# Altium schematic symbol library Sensor_Energy.SchLib: 43 symbols
Pins are listed as number, name and electrical type; pins without a type are passive.

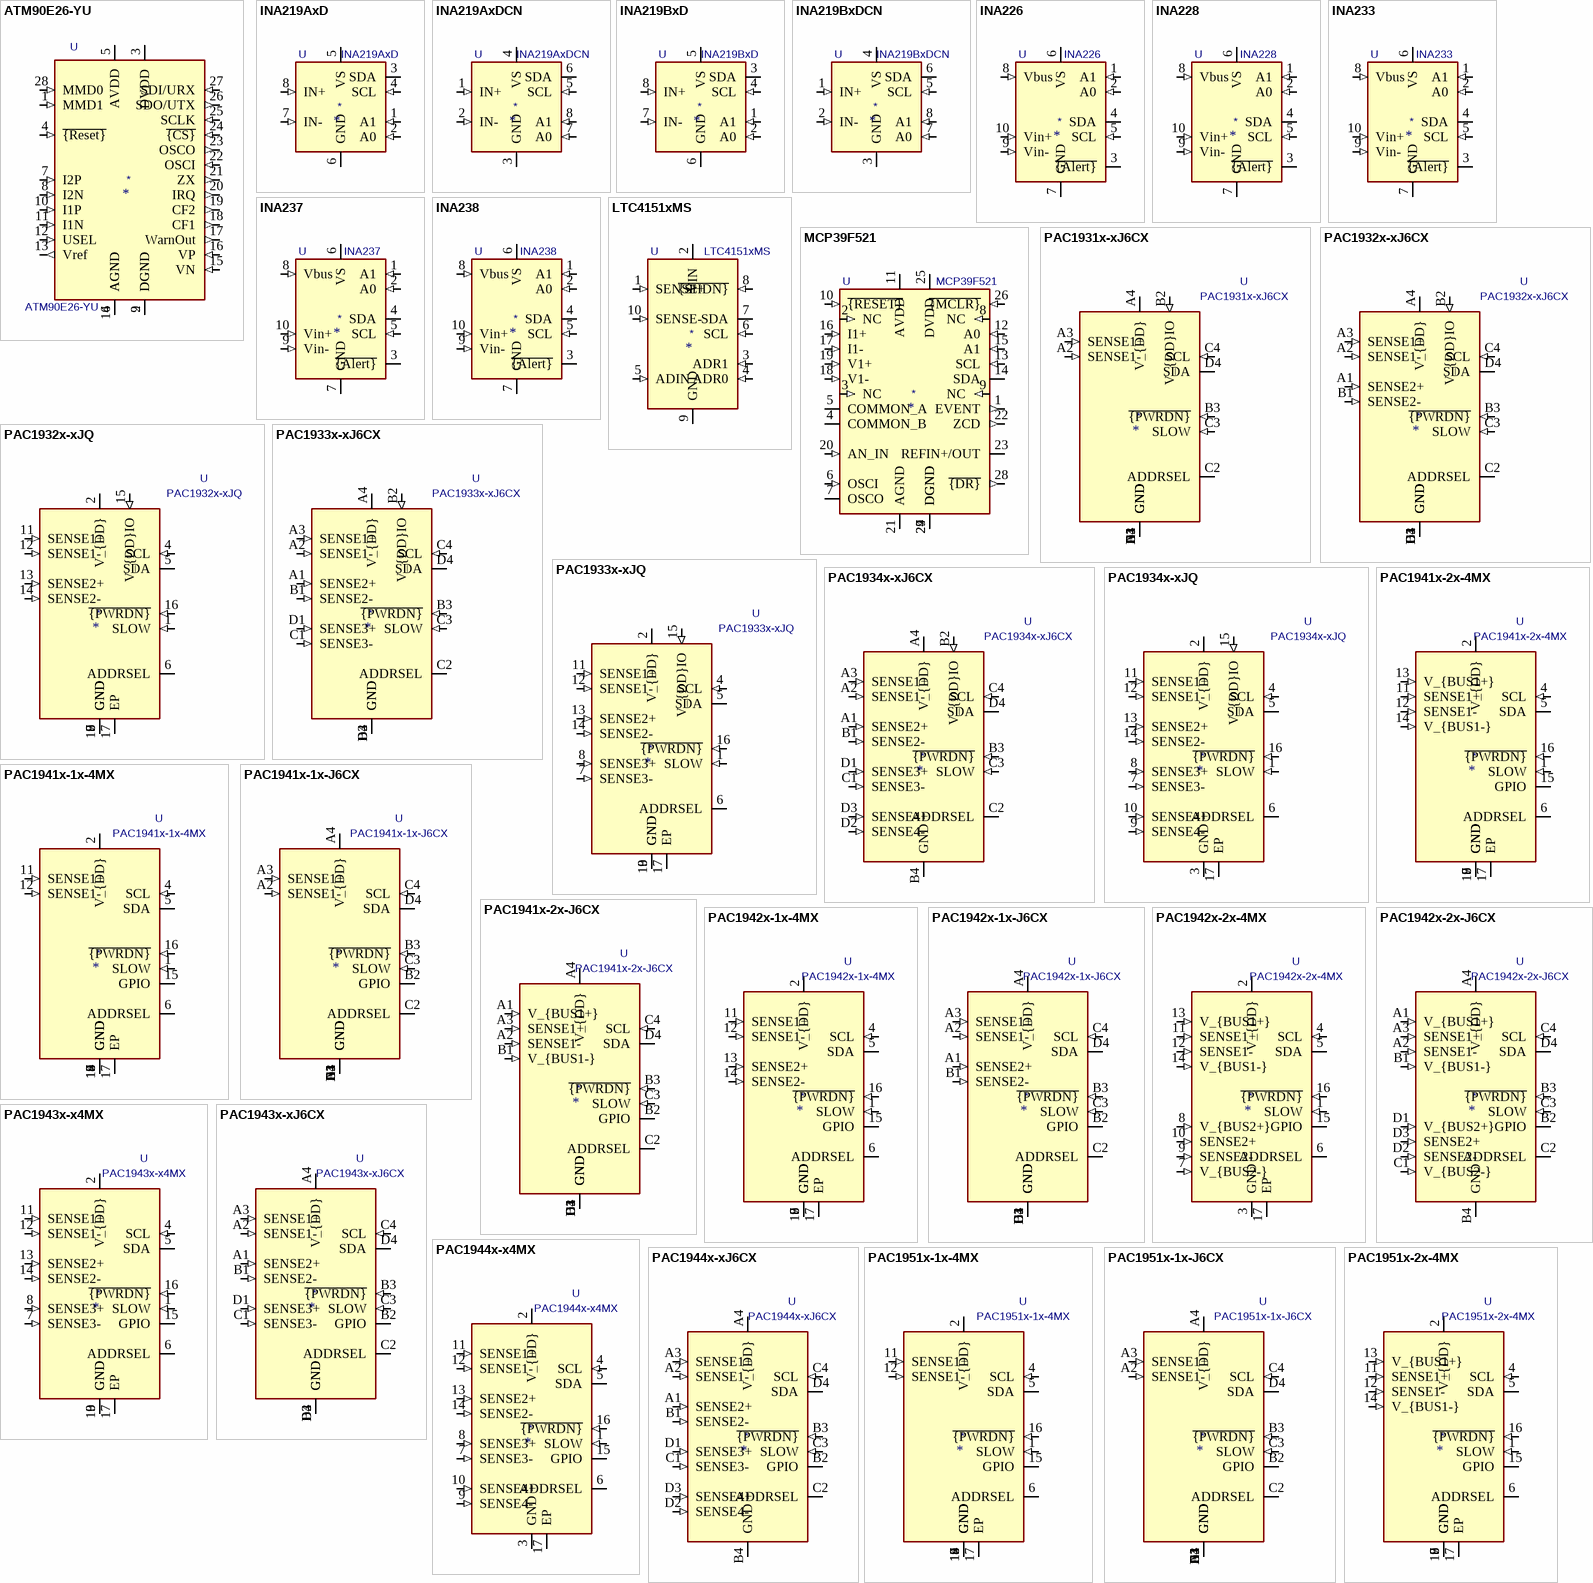
[diagram p0: symbols ATM90E26-YU to PAC1951x-2x-4MX]

## ATM90E26-YU
designator *  value ATM90E26-YU  Reference: U
High precision energy metering device for single-phase two-wire and single-phase three-wire, SSOP-28; ki_keywords: energy metering sensor; ki_fp_filters: SSOP*28*5.3x10.2mm*P0.65mm*; Footprint: Package_SO:SSOP-28_5.3x10.2mm_P0.65mm; Datasheet: https://ww1.microchip.com/downloads/aemDocuments/documents/OTH/ProductDocuments/DataSheets/Atmel-46002-SE-M90E26-Datasheet.pdf; Description_: High precision energy metering device for single-phase two-wire and single-phase three-wire, SSOP-28
pins: 1 MMD1 (in), 2 DGND (power), 3 DVDD (power), 4 ~{{Reset}} (in), 5 AVDD (power), 6 AGND (power), 7 I2P (in), 8 I2N (in), 9 DGND, 10 I1P (in), 11 I1N (in), 12 USEL (in), 13 Vref (out), 14 AGND, 15 VN (in), 16 VP (in), 17 WarnOut (out), 18 CF1 (out), 19 CF2 (out), 20 IRQ (out), 21 ZX (out), 22 OSCI (in), 23 OSCO (out), 24 ~{{CS}} (in), 25 SCLK (in), 26 SDO/UTX (out), 27 SDI/URX (in), 28 MMD0 (in)

## INA219AxD
designator *  value INA219AxD  Reference: U
Zero-Drift, Bidirectional Current/Power Monitor (0-26V) With I2C Interface, SOIC-8; ki_keywords: ADC I2C 16-Bit Oversampling Current Shunt; ki_fp_filters: SOIC*3.9x4.9mm*P1.27mm*; Footprint: Package_SO:SOIC-8_3.9x4.9mm_P1.27mm; Datasheet: http://www.ti.com/lit/ds/symlink/ina219.pdf; Description_: Zero-Drift, Bidirectional Current/Power Monitor (0-26V) With I2C Interface, SOIC-8
pins: 1 A1 (in), 2 A0 (in), 3 SDA (io), 4 SCL (in), 5 VS (power), 6 GND (power), 7 IN- (in), 8 IN+ (in)

## INA219AxDCN
designator *  value INA219AxDCN  Reference: U
Zero-Drift, Bidirectional Current/Power Monitor (0-26V) With I2C Interface, SOT-23-8; ki_keywords: ADC I2C 16-Bit Oversampling Current Shunt; ki_fp_filters: SOT?23*; Footprint: Package_TO_SOT_SMD:SOT-23-8; Datasheet: http://www.ti.com/lit/ds/symlink/ina219.pdf; Description_: Zero-Drift, Bidirectional Current/Power Monitor (0-26V) With I2C Interface, SOT-23-8
pins: 1 IN+ (in), 2 IN- (in), 3 GND (power), 4 VS (power), 5 SCL (in), 6 SDA (io), 7 A0 (in), 8 A1 (in)

## INA219BxD
designator *  value INA219BxD  Reference: U
Zero-Drift, HighAccuracy, Bidirectional Current/Power Monitor (0-26V) With I2C Interface, SOIC-8; ki_keywords: ADC I2C 16-Bit Oversampling Current Shunt; ki_fp_filters: SOIC*3.9x4.9mm*P1.27mm*; Footprint: Package_SO:SOIC-8_3.9x4.9mm_P1.27mm; Datasheet: http://www.ti.com/lit/ds/symlink/ina219.pdf; Description_: Zero-Drift, HighAccuracy, Bidirectional Current/Power Monitor (0-26V) With I2C Interface, SOIC-8
pins: 1 A1 (in), 2 A0 (in), 3 SDA (io), 4 SCL (in), 5 VS (power), 6 GND (power), 7 IN- (in), 8 IN+ (in)

## INA219BxDCN
designator *  value INA219BxDCN  Reference: U
Zero-Drift, HighAccuracy, Bidirectional Current/Power Monitor (0-26V) With I2C Interface, SOT-23-8; ki_keywords: ADC I2C 16-Bit Oversampling Current Shunt; ki_fp_filters: SOT?23*; Footprint: Package_TO_SOT_SMD:SOT-23-8; Datasheet: http://www.ti.com/lit/ds/symlink/ina219.pdf; Description_: Zero-Drift, HighAccuracy, Bidirectional Current/Power Monitor (0-26V) With I2C Interface, SOT-23-8
pins: 1 IN+ (in), 2 IN- (in), 3 GND (power), 4 VS (power), 5 SCL (in), 6 SDA (io), 7 A0 (in), 8 A1 (in)

## INA226
designator *  value INA226  Reference: U
High-Side or Low-Side Measurement, Bi-Directional Current and Power Monitor (0-36V) with I2C Compatible Interface, VSSOP-10; ki_keywords: ADC I2C 16-Bit Oversampling Current Shunt; ki_fp_filters: VSSOP*3x3mm*P0.5mm*; Footprint: Package_SO:VSSOP-10_3x3mm_P0.5mm; Datasheet: http://www.ti.com/lit/ds/symlink/ina226.pdf; Description_: High-Side or Low-Side Measurement, Bi-Directional Current and Power Monitor (0-36V) with I2C Compatible Interface, VSSOP-10
pins: 1 A1 (in), 2 A0 (in), 3 ~{{Alert}} (oc), 4 SDA (io), 5 SCL (in), 6 VS (power), 7 GND (power), 8 Vbus (in), 9 Vin- (in), 10 Vin+ (in)

## INA228
designator *  value INA228  Reference: U
High-Side or Low-Side Measurement, Bi-Directional Current and Power Monitor (0-85V) with I2C, SMBus-, and PMBus-Compatible Interface, VSSOP-10; ki_keywords: ADC I2C 20-Bit Oversampling Current Shunt; ki_fp_filters: VSSOP*3x3mm*P0.5mm*; Footprint: Package_SO:VSSOP-10_3x3mm_P0.5mm; Datasheet: https://www.ti.com/lit/ds/symlink/ina228.pdf; Description_: High-Side or Low-Side Measurement, Bi-Directional Current and Power Monitor (0-85V) with I2C, SMBus-, and PMBus-Compatible Interface, VSSOP-10
pins: 1 A1 (in), 2 A0 (in), 3 ~{{Alert}} (oc), 4 SDA (io), 5 SCL (in), 6 VS (power), 7 GND (power), 8 Vbus (in), 9 Vin- (in), 10 Vin+ (in)

## INA233
designator *  value INA233  Reference: U
High-Side or Low-Side Measurement, Bi-Directional Current and Power Monitor (0-36V) with I2C, SMBus-, and PMBus-Compatible Interface, VSSOP-10; ki_keywords: ADC I2C 16-Bit Oversampling Current Shunt; ki_fp_filters: VSSOP*3x3mm*P0.5mm*; Footprint: Package_SO:VSSOP-10_3x3mm_P0.5mm; Datasheet: https://www.ti.com/lit/ds/symlink/ina233.pdf; Description_: High-Side or Low-Side Measurement, Bi-Directional Current and Power Monitor (0-36V) with I2C, SMBus-, and PMBus-Compatible Interface, VSSOP-10
pins: 1 A1 (in), 2 A0 (in), 3 ~{{Alert}} (oc), 4 SDA (io), 5 SCL (in), 6 VS (power), 7 GND (power), 8 Vbus (in), 9 Vin- (in), 10 Vin+ (in)

## INA237
designator *  value INA237  Reference: U
High-Side or Low-Side Measurement, Bi-Directional Current and Power Monitor (0-85V) with I2C, SMBus-, and PMBus-Compatible Interface, VSSOP-10; ki_keywords: ADC I2C 16-Bit Oversampling Current Shunt; ki_fp_filters: VSSOP*3x3mm*P0.5mm*; Footprint: Package_SO:VSSOP-10_3x3mm_P0.5mm; Datasheet: https://www.ti.com/lit/ds/symlink/ina237.pdf; Description_: High-Side or Low-Side Measurement, Bi-Directional Current and Power Monitor (0-85V) with I2C, SMBus-, and PMBus-Compatible Interface, VSSOP-10
pins: 1 A1 (in), 2 A0 (in), 3 ~{{Alert}} (oc), 4 SDA (io), 5 SCL (in), 6 VS (power), 7 GND (power), 8 Vbus (in), 9 Vin- (in), 10 Vin+ (in)

## INA238
designator *  value INA238  Reference: U
High-Side or Low-Side Measurement, Bi-Directional Current and Power Monitor (0-85V) with I2C, SMBus-, and PMBus-Compatible Interface, VSSOP-10; ki_keywords: ADC I2C 16-Bit Oversampling Current Shunt; ki_fp_filters: VSSOP*3x3mm*P0.5mm*; Footprint: Package_SO:VSSOP-10_3x3mm_P0.5mm; Datasheet: https://www.ti.com/lit/ds/symlink/ina238.pdf; Description_: High-Side or Low-Side Measurement, Bi-Directional Current and Power Monitor (0-85V) with I2C, SMBus-, and PMBus-Compatible Interface, VSSOP-10
pins: 1 A1 (in), 2 A0 (in), 3 ~{{Alert}} (oc), 4 SDA (io), 5 SCL (in), 6 VS (power), 7 GND (power), 8 Vbus (in), 9 Vin- (in), 10 Vin+ (in)

## LTC4151xMS
designator *  value LTC4151xMS  Reference: U
High Voltage I2C Current and Voltage Monitor, MSOP-10; ki_keywords: I2C Current Monitor; ki_fp_filters: MSOP*3x3mm*P0.5mm*; Footprint: Package_SO:MSOP-10_3x3mm_P0.5mm; Datasheet: https://www.analog.com/media/en/technical-documentation/data-sheets/4151ff.pdf; Description_: High Voltage I2C Current and Voltage Monitor, MSOP-10
pins: 1 SENSE+ (in), 2 VIN (power), 3 ADR1 (in), 4 ADR0 (in), 5 ADIN (in), 6 SCL (in), 7 SDA (io), 8 ~{{SHDN}} (in), 9 GND (power), 10 SENSE- (in)

## MCP39F521
designator *  value MCP39F521  Reference: U
Power Monitor, Calculation and Energy Accumulation, I2C, 16-bit, QFN-28; ki_keywords: i2c power monitor; ki_fp_filters: QFN*1EP*5x5mm*P0.5mm*; Footprint: Package_DFN_QFN:QFN-28-1EP_5x5mm_P0.5mm_EP3.35x3.35mm; Datasheet: http://ww1.microchip.com/downloads/en/DeviceDoc/20005442A.pdf; Description_: Power Monitor, Calculation and Energy Accumulation, I2C, 16-bit, QFN-28
pins: 1 EVENT (out), 2 NC (in), 3 NC (in), 4 COMMON_B, 5 COMMON_A, 6 OSCI (in), 7 OSCO, 8 NC (in), 9 NC (in), 10 ~{{RESET}} (in), 11 AVDD (power), 12 A0 (in), 13 SCL (in), 14 SDA (io), 15 A1 (in), 16 I1+ (in), 17 I1- (in), 18 V1- (in), 19 V1+ (in), 20 AN_IN (in), 21 AGND (power), 22 ZCD (out), 23 REFIN+/OUT (io), 24 DGND (power), 25 DVDD (power), 26 ~{{MCLR}} (in), 27 DGND, 28 ~{{DR}} (out), 29 DGND

## PAC1931x-xJ6CX
designator *  value PAC1931x-xJ6CX  Reference: U
One Channel High-side Power Monitor, 32V, I2C, WLCSP-16; ki_keywords: Power Monitor I2C; ki_fp_filters: WLCSP*2.225x2.17mm*Layout4x4*P0.5mm*; Footprint: Package_CSP:WLCSP-16_2.225x2.17mm_Layout4x4_P0.5mm; Datasheet: https://ww1.microchip.com/downloads/en/DeviceDoc/PAC1931-Family-Data-Sheet-DS20005850E.pdf; Description_: One Channel High-side Power Monitor, 32V, I2C, WLCSP-16
pins: A1 GND, A2 SENSE1- (in), A3 SENSE1+ (in), A4 V_{DD} (power), B1 GND, B2 V_{DD}IO (in), B3 ~{{PWRDN}} (in), B4 GND (power), C1 GND, C2 ADDRSEL, C3 SLOW (in), C4 SCL (in), D1 GND, D2 GND, D3 GND, D4 SDA (io)

## PAC1932x-xJ6CX
designator *  value PAC1932x-xJ6CX  Reference: U
Two Channel High-side Power Monitor, 32V, I2C, WLCSP-16; ki_keywords: Power Monitor I2C; ki_fp_filters: WLCSP*2.225x2.17mm*Layout4x4*P0.5mm*; Footprint: Package_CSP:WLCSP-16_2.225x2.17mm_Layout4x4_P0.5mm; Datasheet: https://ww1.microchip.com/downloads/en/DeviceDoc/PAC1931-Family-Data-Sheet-DS20005850E.pdf; Description_: Two Channel High-side Power Monitor, 32V, I2C, WLCSP-16
pins: A1 SENSE2+ (in), A2 SENSE1- (in), A3 SENSE1+ (in), A4 V_{DD} (power), B1 SENSE2- (in), B2 V_{DD}IO (in), B3 ~{{PWRDN}} (in), B4 GND (power), C1 GND, C2 ADDRSEL, C3 SLOW (in), C4 SCL (in), D1 GND, D2 GND, D3 GND, D4 SDA (io)

## PAC1932x-xJQ
designator *  value PAC1932x-xJQ  Reference: U
Two Channel High-side Power Monitor, 32V, I2C, UQFN-16; ki_keywords: Power Monitor I2C; ki_fp_filters: UQFN*1EP*4x4mm*P0.65mm*EP2.6x2.6mm*; Footprint: Package_DFN_QFN:UQFN-16-1EP_4x4mm_P0.65mm_EP2.6x2.6mm; Datasheet: https://ww1.microchip.com/downloads/en/DeviceDoc/PAC1931-Family-Data-Sheet-DS20005850E.pdf; Description_: Two Channel High-side Power Monitor, 32V, I2C, UQFN-16
pins: 1 SLOW (in), 2 V_{DD} (power), 3 GND (power), 4 SCL (in), 5 SDA (io), 6 ADDRSEL, 7 GND, 8 GND, 9 GND, 10 GND, 11 SENSE1+ (in), 12 SENSE1- (in), 13 SENSE2+ (in), 14 SENSE2- (in), 15 V_{DD}IO (in), 16 ~{{PWRDN}} (in), 17 EP

## PAC1933x-xJ6CX
designator *  value PAC1933x-xJ6CX  Reference: U
Three Channel High-side Power Monitor, 32V, I2C, WLCSP-16; ki_keywords: Power Monitor I2C; ki_fp_filters: WLCSP*2.225x2.17mm*Layout4x4*P0.5mm*; Footprint: Package_CSP:WLCSP-16_2.225x2.17mm_Layout4x4_P0.5mm; Datasheet: https://ww1.microchip.com/downloads/en/DeviceDoc/PAC1931-Family-Data-Sheet-DS20005850E.pdf; Description_: Three Channel High-side Power Monitor, 32V, I2C, WLCSP-16
pins: A1 SENSE2+ (in), A2 SENSE1- (in), A3 SENSE1+ (in), A4 V_{DD} (power), B1 SENSE2- (in), B2 V_{DD}IO (in), B3 ~{{PWRDN}} (in), B4 GND (power), C1 SENSE3- (in), C2 ADDRSEL, C3 SLOW (in), C4 SCL (in), D1 SENSE3+ (in), D2 GND, D3 GND, D4 SDA (io)

## PAC1933x-xJQ
designator *  value PAC1933x-xJQ  Reference: U
Three Channel High-side Power Monitor, 32V, I2C, UQFN-16; ki_keywords: Power Monitor I2C; ki_fp_filters: UQFN*1EP*4x4mm*P0.65mm*EP2.6x2.6mm*; Footprint: Package_DFN_QFN:UQFN-16-1EP_4x4mm_P0.65mm_EP2.6x2.6mm; Datasheet: https://ww1.microchip.com/downloads/en/DeviceDoc/PAC1931-Family-Data-Sheet-DS20005850E.pdf; Description_: Three Channel High-side Power Monitor, 32V, I2C, UQFN-16
pins: 1 SLOW (in), 2 V_{DD} (power), 3 GND (power), 4 SCL (in), 5 SDA (io), 6 ADDRSEL, 7 SENSE3- (in), 8 SENSE3+ (in), 9 GND, 10 GND, 11 SENSE1+ (in), 12 SENSE1- (in), 13 SENSE2+ (in), 14 SENSE2- (in), 15 V_{DD}IO (in), 16 ~{{PWRDN}} (in), 17 EP

## PAC1934x-xJ6CX
designator *  value PAC1934x-xJ6CX  Reference: U
Four Channel High-side Power Monitor, 32V, I2C, WLCSP-16; ki_keywords: Power Monitor I2C; ki_fp_filters: WLCSP*2.225x2.17mm*Layout4x4*P0.5mm*; Footprint: Package_CSP:WLCSP-16_2.225x2.17mm_Layout4x4_P0.5mm; Datasheet: https://ww1.microchip.com/downloads/en/DeviceDoc/PAC1931-Family-Data-Sheet-DS20005850E.pdf; Description_: Four Channel High-side Power Monitor, 32V, I2C, WLCSP-16
pins: A1 SENSE2+ (in), A2 SENSE1- (in), A3 SENSE1+ (in), A4 V_{DD} (power), B1 SENSE2- (in), B2 V_{DD}IO (in), B3 ~{{PWRDN}} (in), B4 GND (power), C1 SENSE3- (in), C2 ADDRSEL, C3 SLOW (in), C4 SCL (in), D1 SENSE3+ (in), D2 SENSE4- (in), D3 SENSE4+ (in), D4 SDA (io)

## PAC1934x-xJQ
designator *  value PAC1934x-xJQ  Reference: U
Four Channel High-side Power Monitor, 32V, I2C, UQFN-16; ki_keywords: Power Monitor I2C; ki_fp_filters: UQFN*1EP*4x4mm*P0.65mm*EP2.6x2.6mm*; Footprint: Package_DFN_QFN:UQFN-16-1EP_4x4mm_P0.65mm_EP2.6x2.6mm; Datasheet: https://ww1.microchip.com/downloads/en/DeviceDoc/PAC1931-Family-Data-Sheet-DS20005850E.pdf; Description_: Four Channel High-side Power Monitor, 32V, I2C, UQFN-16
pins: 1 SLOW (in), 2 V_{DD} (power), 3 GND (power), 4 SCL (in), 5 SDA (io), 6 ADDRSEL, 7 SENSE3- (in), 8 SENSE3+ (in), 9 SENSE4- (in), 10 SENSE4+ (in), 11 SENSE1+ (in), 12 SENSE1- (in), 13 SENSE2+ (in), 14 SENSE2- (in), 15 V_{DD}IO (in), 16 ~{{PWRDN}} (in), 17 EP

## PAC1941x-1x-4MX
designator *  value PAC1941x-1x-4MX  Reference: U
One Channel High-side Power Monitor, 9V, I2C, VQFN-16; ki_keywords: Power Monitor I2C; ki_fp_filters: VQFN*1EP*3x3mm*P0.5mm*EP1.1x1.1mm*; Footprint: Package_DFN_QFN:VQFN-16-1EP_3x3mm_P0.5mm_EP1.1x1.1mm; Datasheet: https://ww1.microchip.com/downloads/en/DeviceDoc/PAC194X-Data-Sheet-20006543.pdf; Description_: One Channel High-side Power Monitor, 9V, I2C, VQFN-16
pins: 1 SLOW (in), 2 V_{DD} (power), 3 GND (power), 4 SCL (in), 5 SDA (io), 6 ADDRSEL, 7 GND, 8 GND, 9 GND, 10 GND, 11 SENSE1+ (in), 12 SENSE1- (in), 13 GND, 14 GND, 15 GPIO (io), 16 ~{{PWRDN}} (in), 17 EP

## PAC1941x-1x-J6CX
designator *  value PAC1941x-1x-J6CX  Reference: U
One Channel High-side Power Monitor, 9V, I2C, WLCSP-16; ki_keywords: Power Monitor I2C; ki_fp_filters: WLCSP*2.225x2.17mm*Layout4x4*P0.5mm*; Footprint: Package_CSP:WLCSP-16_2.225x2.17mm_Layout4x4_P0.5mm; Datasheet: https://ww1.microchip.com/downloads/en/DeviceDoc/PAC194X-Data-Sheet-20006543.pdf; Description_: One Channel High-side Power Monitor, 9V, I2C, WLCSP-16
pins: A1 GND, A2 SENSE1- (in), A3 SENSE1+ (in), A4 V_{DD} (power), B1 GND, B2 GPIO (io), B3 ~{{PWRDN}} (in), B4 GND (power), C1 GND, C2 ADDRSEL, C3 SLOW (in), C4 SCL (in), D1 GND, D2 GND, D3 GND, D4 SDA (io)

## PAC1941x-2x-4MX
designator *  value PAC1941x-2x-4MX  Reference: U
One Channel Low-side Power Monitor, 9V, I2C, VQFN-16; ki_keywords: Power Monitor I2C; ki_fp_filters: VQFN*1EP*3x3mm*P0.5mm*EP1.1x1.1mm*; Footprint: Package_DFN_QFN:VQFN-16-1EP_3x3mm_P0.5mm_EP1.1x1.1mm; Datasheet: https://ww1.microchip.com/downloads/en/DeviceDoc/PAC194X-Data-Sheet-20006543.pdf; Description_: One Channel Low-side Power Monitor, 9V, I2C, VQFN-16
pins: 1 SLOW (in), 2 V_{DD} (power), 3 GND (power), 4 SCL (in), 5 SDA (io), 6 ADDRSEL, 7 GND, 8 GND, 9 GND, 10 GND, 11 SENSE1+ (in), 12 SENSE1- (in), 13 V_{BUS1+} (in), 14 V_{BUS1-} (in), 15 GPIO (io), 16 ~{{PWRDN}} (in), 17 EP

## PAC1941x-2x-J6CX
designator *  value PAC1941x-2x-J6CX  Reference: U
One Channel Low-side Power Monitor, 9V, I2C, WLCSP-16; ki_keywords: Power Monitor I2C; ki_fp_filters: WLCSP*2.225x2.17mm*Layout4x4*P0.5mm*; Footprint: Package_CSP:WLCSP-16_2.225x2.17mm_Layout4x4_P0.5mm; Datasheet: https://ww1.microchip.com/downloads/en/DeviceDoc/PAC194X-Data-Sheet-20006543.pdf; Description_: One Channel Low-side Power Monitor, 9V, I2C, WLCSP-16
pins: A1 V_{BUS1+} (in), A2 SENSE1- (in), A3 SENSE1+ (in), A4 V_{DD} (power), B1 V_{BUS1-} (in), B2 GPIO (io), B3 ~{{PWRDN}} (in), B4 GND (power), C1 GND, C2 ADDRSEL, C3 SLOW (in), C4 SCL (in), D1 GND, D2 GND, D3 GND, D4 SDA (io)

## PAC1942x-1x-4MX
designator *  value PAC1942x-1x-4MX  Reference: U
Two Channel High-side Power Monitor, 9V, I2C, VQFN-16; ki_keywords: Power Monitor I2C; ki_fp_filters: VQFN*1EP*3x3mm*P0.5mm*EP1.1x1.1mm*; Footprint: Package_DFN_QFN:VQFN-16-1EP_3x3mm_P0.5mm_EP1.1x1.1mm; Datasheet: https://ww1.microchip.com/downloads/en/DeviceDoc/PAC194X-Data-Sheet-20006543.pdf; Description_: Two Channel High-side Power Monitor, 9V, I2C, VQFN-16
pins: 1 SLOW (in), 2 V_{DD} (power), 3 GND (power), 4 SCL (in), 5 SDA (io), 6 ADDRSEL, 7 GND, 8 GND, 9 GND, 10 GND, 11 SENSE1+ (in), 12 SENSE1- (in), 13 SENSE2+ (in), 14 SENSE2- (in), 15 GPIO (io), 16 ~{{PWRDN}} (in), 17 EP

## PAC1942x-1x-J6CX
designator *  value PAC1942x-1x-J6CX  Reference: U
Two Channel High-side Power Monitor, 9V, I2C, WLCSP-16; ki_keywords: Power Monitor I2C; ki_fp_filters: WLCSP*2.225x2.17mm*Layout4x4*P0.5mm*; Footprint: Package_CSP:WLCSP-16_2.225x2.17mm_Layout4x4_P0.5mm; Datasheet: https://ww1.microchip.com/downloads/en/DeviceDoc/PAC194X-Data-Sheet-20006543.pdf; Description_: Two Channel High-side Power Monitor, 9V, I2C, WLCSP-16
pins: A1 SENSE2+ (in), A2 SENSE1- (in), A3 SENSE1+ (in), A4 V_{DD} (power), B1 SENSE2- (in), B2 GPIO (io), B3 ~{{PWRDN}} (in), B4 GND (power), C1 GND, C2 ADDRSEL, C3 SLOW (in), C4 SCL (in), D1 GND, D2 GND, D3 GND, D4 SDA (io)

## PAC1942x-2x-4MX
designator *  value PAC1942x-2x-4MX  Reference: U
Two Channel Low-side Power Monitor, 9V, I2C, VQFN-16; ki_keywords: Power Monitor I2C; ki_fp_filters: VQFN*1EP*3x3mm*P0.5mm*EP1.1x1.1mm*; Footprint: Package_DFN_QFN:VQFN-16-1EP_3x3mm_P0.5mm_EP1.1x1.1mm; Datasheet: https://ww1.microchip.com/downloads/en/DeviceDoc/PAC194X-Data-Sheet-20006543.pdf; Description_: Two Channel Low-side Power Monitor, 9V, I2C, VQFN-16
pins: 1 SLOW (in), 2 V_{DD} (power), 3 GND (power), 4 SCL (in), 5 SDA (io), 6 ADDRSEL, 7 V_{BUS2-} (in), 8 V_{BUS2+} (in), 9 SENSE2- (in), 10 SENSE2+ (in), 11 SENSE1+ (in), 12 SENSE1- (in), 13 V_{BUS1+} (in), 14 V_{BUS1-} (in), 15 GPIO (io), 16 ~{{PWRDN}} (in), 17 EP

## PAC1942x-2x-J6CX
designator *  value PAC1942x-2x-J6CX  Reference: U
Two Channel Low-side Power Monitor, 9V, I2C, WLCSP-16; ki_keywords: Power Monitor I2C; ki_fp_filters: WLCSP*2.225x2.17mm*Layout4x4*P0.5mm*; Footprint: Package_CSP:WLCSP-16_2.225x2.17mm_Layout4x4_P0.5mm; Datasheet: https://ww1.microchip.com/downloads/en/DeviceDoc/PAC194X-Data-Sheet-20006543.pdf; Description_: Two Channel Low-side Power Monitor, 9V, I2C, WLCSP-16
pins: A1 V_{BUS1+} (in), A2 SENSE1- (in), A3 SENSE1+ (in), A4 V_{DD} (power), B1 V_{BUS1-} (in), B2 GPIO (io), B3 ~{{PWRDN}} (in), B4 GND (power), C1 V_{BUS2-} (in), C2 ADDRSEL, C3 SLOW (in), C4 SCL (in), D1 V_{BUS2+} (in), D2 SENSE2- (in), D3 SENSE2+ (in), D4 SDA (io)

## PAC1943x-x4MX
designator *  value PAC1943x-x4MX  Reference: U
Three Channel High-Side Power Monitor, 9V, I2C, VQFN-16; ki_keywords: Power Monitor I2C; ki_fp_filters: VQFN*1EP*3x3mm*P0.5mm*EP1.1x1.1mm*; Footprint: Package_DFN_QFN:VQFN-16-1EP_3x3mm_P0.5mm_EP1.1x1.1mm; Datasheet: https://ww1.microchip.com/downloads/en/DeviceDoc/PAC194X-Data-Sheet-20006543.pdf; Description_: Three Channel High-Side Power Monitor, 9V, I2C, VQFN-16
pins: 1 SLOW (in), 2 V_{DD} (power), 3 GND (power), 4 SCL (in), 5 SDA (io), 6 ADDRSEL, 7 SENSE3- (in), 8 SENSE3+ (in), 9 GND, 10 GND, 11 SENSE1+ (in), 12 SENSE1- (in), 13 SENSE2+ (in), 14 SENSE2- (in), 15 GPIO (io), 16 ~{{PWRDN}} (in), 17 EP

## PAC1943x-xJ6CX
designator *  value PAC1943x-xJ6CX  Reference: U
Three Channel High-Side Power Monitor, 9V, I2C, WLCSP-16; ki_keywords: Power Monitor I2C; ki_fp_filters: WLCSP*2.225x2.17mm*Layout4x4*P0.5mm*; Footprint: Package_CSP:WLCSP-16_2.225x2.17mm_Layout4x4_P0.5mm; Datasheet: https://ww1.microchip.com/downloads/en/DeviceDoc/PAC194X-Data-Sheet-20006543.pdf; Description_: Three Channel High-Side Power Monitor, 9V, I2C, WLCSP-16
pins: A1 SENSE2+ (in), A2 SENSE1- (in), A3 SENSE1+ (in), A4 V_{DD} (power), B1 SENSE2- (in), B2 GPIO (io), B3 ~{{PWRDN}} (in), B4 GND (power), C1 SENSE3- (in), C2 ADDRSEL, C3 SLOW (in), C4 SCL (in), D1 SENSE3+ (in), D2 GND, D3 GND, D4 SDA (io)

## PAC1944x-x4MX
designator *  value PAC1944x-x4MX  Reference: U
Four Channel High-side Power Monitor, 9V, I2C, VQFN-16; ki_keywords: Power Monitor I2C; ki_fp_filters: VQFN*1EP*3x3mm*P0.5mm*EP1.1x1.1mm*; Footprint: Package_DFN_QFN:VQFN-16-1EP_3x3mm_P0.5mm_EP1.1x1.1mm; Datasheet: https://ww1.microchip.com/downloads/en/DeviceDoc/PAC194X-Data-Sheet-20006543.pdf; Description_: Four Channel High-side Power Monitor, 9V, I2C, VQFN-16
pins: 1 SLOW (in), 2 V_{DD} (power), 3 GND (power), 4 SCL (in), 5 SDA (io), 6 ADDRSEL, 7 SENSE3- (in), 8 SENSE3+ (in), 9 SENSE4- (in), 10 SENSE4+ (in), 11 SENSE1+ (in), 12 SENSE1- (in), 13 SENSE2+ (in), 14 SENSE2- (in), 15 GPIO (io), 16 ~{{PWRDN}} (in), 17 EP

## PAC1944x-xJ6CX
designator *  value PAC1944x-xJ6CX  Reference: U
Four Channel High-side Power Monitor, 9V, I2C, WLCSP-16; ki_keywords: Power Monitor I2C; ki_fp_filters: WLCSP*2.225x2.17mm*Layout4x4*P0.5mm*; Footprint: Package_CSP:WLCSP-16_2.225x2.17mm_Layout4x4_P0.5mm; Datasheet: https://ww1.microchip.com/downloads/en/DeviceDoc/PAC194X-Data-Sheet-20006543.pdf; Description_: Four Channel High-side Power Monitor, 9V, I2C, WLCSP-16
pins: A1 SENSE2+ (in), A2 SENSE1- (in), A3 SENSE1+ (in), A4 V_{DD} (power), B1 SENSE2- (in), B2 GPIO (io), B3 ~{{PWRDN}} (in), B4 GND (power), C1 SENSE3- (in), C2 ADDRSEL, C3 SLOW (in), C4 SCL (in), D1 SENSE3+ (in), D2 SENSE4- (in), D3 SENSE4+ (in), D4 SDA (io)

## PAC1951x-1x-4MX
designator *  value PAC1951x-1x-4MX  Reference: U
One Channel High-side Power Monitor, 32V, I2C, VQFN-16; ki_keywords: Power Monitor I2C; ki_fp_filters: VQFN*1EP*3x3mm*P0.5mm*EP1.1x1.1mm*; Footprint: Package_DFN_QFN:VQFN-16-1EP_3x3mm_P0.5mm_EP1.1x1.1mm; Datasheet: https://ww1.microchip.com/downloads/en/DeviceDoc/PAC195X-Data-Sheet-20006539.pdf; Description_: One Channel High-side Power Monitor, 32V, I2C, VQFN-16
pins: 1 SLOW (in), 2 V_{DD} (power), 3 GND (power), 4 SCL (in), 5 SDA (io), 6 ADDRSEL, 7 GND, 8 GND, 9 GND, 10 GND, 11 SENSE1+ (in), 12 SENSE1- (in), 13 GND, 14 GND, 15 GPIO (io), 16 ~{{PWRDN}} (in), 17 EP

## PAC1951x-1x-J6CX
designator *  value PAC1951x-1x-J6CX  Reference: U
One Channel High-side Power Monitor, 32V, I2C, WLCSP-16; ki_keywords: Power Monitor I2C; ki_fp_filters: WLCSP*2.225x2.17mm*Layout4x4*P0.5mm*; Footprint: Package_CSP:WLCSP-16_2.225x2.17mm_Layout4x4_P0.5mm; Datasheet: https://ww1.microchip.com/downloads/en/DeviceDoc/PAC195X-Data-Sheet-20006539.pdf; Description_: One Channel High-side Power Monitor, 32V, I2C, WLCSP-16
pins: A1 GND, A2 SENSE1- (in), A3 SENSE1+ (in), A4 V_{DD} (power), B1 GND, B2 GPIO (io), B3 ~{{PWRDN}} (in), B4 GND (power), C1 GND, C2 ADDRSEL, C3 SLOW (in), C4 SCL (in), D1 GND, D2 GND, D3 GND, D4 SDA (io)

## PAC1951x-2x-4MX
designator *  value PAC1951x-2x-4MX  Reference: U
One Channel Low-side Power Monitor, 32V, I2C, VQFN-16; ki_keywords: Power Monitor I2C; ki_fp_filters: VQFN*1EP*3x3mm*P0.5mm*EP1.1x1.1mm*; Footprint: Package_DFN_QFN:VQFN-16-1EP_3x3mm_P0.5mm_EP1.1x1.1mm; Datasheet: https://ww1.microchip.com/downloads/en/DeviceDoc/PAC195X-Data-Sheet-20006539.pdf; Description_: One Channel Low-side Power Monitor, 32V, I2C, VQFN-16
pins: 1 SLOW (in), 2 V_{DD} (power), 3 GND (power), 4 SCL (in), 5 SDA (io), 6 ADDRSEL, 7 GND, 8 GND, 9 GND, 10 GND, 11 SENSE1+ (in), 12 SENSE1- (in), 13 V_{BUS1+} (in), 14 V_{BUS1-} (in), 15 GPIO (io), 16 ~{{PWRDN}} (in), 17 EP

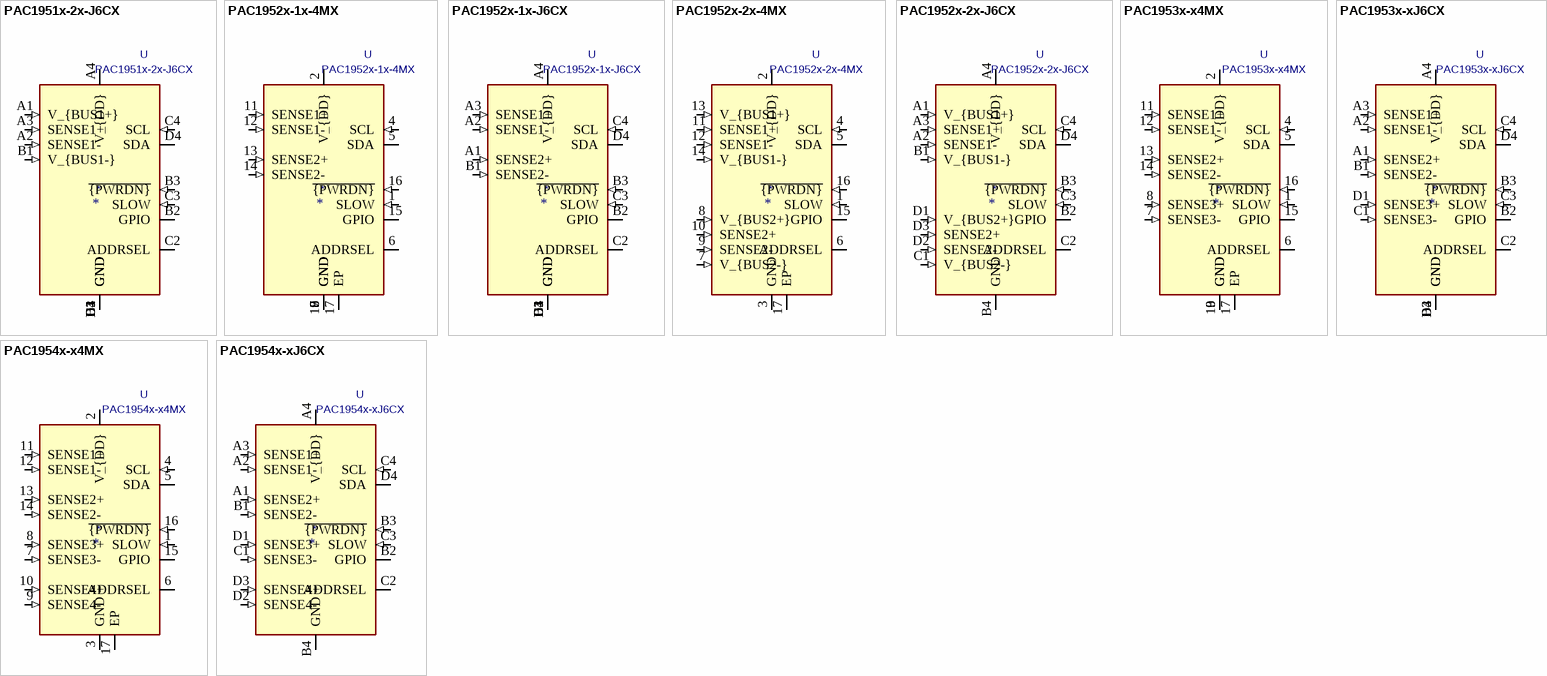
[diagram p1: symbols PAC1951x-2x-J6CX to PAC1954x-xJ6CX]

## PAC1951x-2x-J6CX
designator *  value PAC1951x-2x-J6CX  Reference: U
One Channel Low-side Power Monitor, 32V, I2C, WLCSP-16; ki_keywords: Power Monitor I2C; ki_fp_filters: WLCSP*2.225x2.17mm*Layout4x4*P0.5mm*; Footprint: Package_CSP:WLCSP-16_2.225x2.17mm_Layout4x4_P0.5mm; Datasheet: https://ww1.microchip.com/downloads/en/DeviceDoc/PAC195X-Data-Sheet-20006539.pdf; Description_: One Channel Low-side Power Monitor, 32V, I2C, WLCSP-16
pins: A1 V_{BUS1+} (in), A2 SENSE1- (in), A3 SENSE1+ (in), A4 V_{DD} (power), B1 V_{BUS1-} (in), B2 GPIO (io), B3 ~{{PWRDN}} (in), B4 GND (power), C1 GND, C2 ADDRSEL, C3 SLOW (in), C4 SCL (in), D1 GND, D2 GND, D3 GND, D4 SDA (io)

## PAC1952x-1x-4MX
designator *  value PAC1952x-1x-4MX  Reference: U
Two Channel High-side Power Monitor, 32V, I2C, VQFN-16; ki_keywords: Power Monitor I2C; ki_fp_filters: VQFN*1EP*3x3mm*P0.5mm*EP1.1x1.1mm*; Footprint: Package_DFN_QFN:VQFN-16-1EP_3x3mm_P0.5mm_EP1.1x1.1mm; Datasheet: https://ww1.microchip.com/downloads/en/DeviceDoc/PAC195X-Data-Sheet-20006539.pdf; Description_: Two Channel High-side Power Monitor, 32V, I2C, VQFN-16
pins: 1 SLOW (in), 2 V_{DD} (power), 3 GND (power), 4 SCL (in), 5 SDA (io), 6 ADDRSEL, 7 GND, 8 GND, 9 GND, 10 GND, 11 SENSE1+ (in), 12 SENSE1- (in), 13 SENSE2+ (in), 14 SENSE2- (in), 15 GPIO (io), 16 ~{{PWRDN}} (in), 17 EP

## PAC1952x-1x-J6CX
designator *  value PAC1952x-1x-J6CX  Reference: U
Two Channel High-side Power Monitor, 32V, I2C, WLCSP-16; ki_keywords: Power Monitor I2C; ki_fp_filters: WLCSP*2.225x2.17mm*Layout4x4*P0.5mm*; Footprint: Package_CSP:WLCSP-16_2.225x2.17mm_Layout4x4_P0.5mm; Datasheet: https://ww1.microchip.com/downloads/en/DeviceDoc/PAC195X-Data-Sheet-20006539.pdf; Description_: Two Channel High-side Power Monitor, 32V, I2C, WLCSP-16
pins: A1 SENSE2+ (in), A2 SENSE1- (in), A3 SENSE1+ (in), A4 V_{DD} (power), B1 SENSE2- (in), B2 GPIO (io), B3 ~{{PWRDN}} (in), B4 GND (power), C1 GND, C2 ADDRSEL, C3 SLOW (in), C4 SCL (in), D1 GND, D2 GND, D3 GND, D4 SDA (io)

## PAC1952x-2x-4MX
designator *  value PAC1952x-2x-4MX  Reference: U
Two Channel Low-side Power Monitor, 32V, I2C, VQFN-16; ki_keywords: Power Monitor I2C; ki_fp_filters: VQFN*1EP*3x3mm*P0.5mm*EP1.1x1.1mm*; Footprint: Package_DFN_QFN:VQFN-16-1EP_3x3mm_P0.5mm_EP1.1x1.1mm; Datasheet: https://ww1.microchip.com/downloads/en/DeviceDoc/PAC195X-Data-Sheet-20006539.pdf; Description_: Two Channel Low-side Power Monitor, 32V, I2C, VQFN-16
pins: 1 SLOW (in), 2 V_{DD} (power), 3 GND (power), 4 SCL (in), 5 SDA (io), 6 ADDRSEL, 7 V_{BUS2-} (in), 8 V_{BUS2+} (in), 9 SENSE2- (in), 10 SENSE2+ (in), 11 SENSE1+ (in), 12 SENSE1- (in), 13 V_{BUS1+} (in), 14 V_{BUS1-} (in), 15 GPIO (io), 16 ~{{PWRDN}} (in), 17 EP

## PAC1952x-2x-J6CX
designator *  value PAC1952x-2x-J6CX  Reference: U
Two Channel Low-side Power Monitor, 32V, I2C, WLCSP-16; ki_keywords: Power Monitor I2C; ki_fp_filters: WLCSP*2.225x2.17mm*Layout4x4*P0.5mm*; Footprint: Package_CSP:WLCSP-16_2.225x2.17mm_Layout4x4_P0.5mm; Datasheet: https://ww1.microchip.com/downloads/en/DeviceDoc/PAC195X-Data-Sheet-20006539.pdf; Description_: Two Channel Low-side Power Monitor, 32V, I2C, WLCSP-16
pins: A1 V_{BUS1+} (in), A2 SENSE1- (in), A3 SENSE1+ (in), A4 V_{DD} (power), B1 V_{BUS1-} (in), B2 GPIO (io), B3 ~{{PWRDN}} (in), B4 GND (power), C1 V_{BUS2-} (in), C2 ADDRSEL, C3 SLOW (in), C4 SCL (in), D1 V_{BUS2+} (in), D2 SENSE2- (in), D3 SENSE2+ (in), D4 SDA (io)

## PAC1953x-x4MX
designator *  value PAC1953x-x4MX  Reference: U
Three Channel High-Side Power Monitor, 32V, I2C, VQFN-16; ki_keywords: Power Monitor I2C; ki_fp_filters: VQFN*1EP*3x3mm*P0.5mm*EP1.1x1.1mm*; Footprint: Package_DFN_QFN:VQFN-16-1EP_3x3mm_P0.5mm_EP1.1x1.1mm; Datasheet: https://ww1.microchip.com/downloads/en/DeviceDoc/PAC195X-Data-Sheet-20006539.pdf; Description_: Three Channel High-Side Power Monitor, 32V, I2C, VQFN-16
pins: 1 SLOW (in), 2 V_{DD} (power), 3 GND (power), 4 SCL (in), 5 SDA (io), 6 ADDRSEL, 7 SENSE3- (in), 8 SENSE3+ (in), 9 GND, 10 GND, 11 SENSE1+ (in), 12 SENSE1- (in), 13 SENSE2+ (in), 14 SENSE2- (in), 15 GPIO (io), 16 ~{{PWRDN}} (in), 17 EP

## PAC1953x-xJ6CX
designator *  value PAC1953x-xJ6CX  Reference: U
Three Channel High-Side Power Monitor, 32V, I2C, WLCSP-16; ki_keywords: Power Monitor I2C; ki_fp_filters: WLCSP*2.225x2.17mm*Layout4x4*P0.5mm*; Footprint: Package_CSP:WLCSP-16_2.225x2.17mm_Layout4x4_P0.5mm; Datasheet: https://ww1.microchip.com/downloads/en/DeviceDoc/PAC195X-Data-Sheet-20006539.pdf; Description_: Three Channel High-Side Power Monitor, 32V, I2C, WLCSP-16
pins: A1 SENSE2+ (in), A2 SENSE1- (in), A3 SENSE1+ (in), A4 V_{DD} (power), B1 SENSE2- (in), B2 GPIO (io), B3 ~{{PWRDN}} (in), B4 GND (power), C1 SENSE3- (in), C2 ADDRSEL, C3 SLOW (in), C4 SCL (in), D1 SENSE3+ (in), D2 GND, D3 GND, D4 SDA (io)

## PAC1954x-x4MX
designator *  value PAC1954x-x4MX  Reference: U
Four Channel High-side Power Monitor, 32V, I2C, VQFN-16; ki_keywords: Power Monitor I2C; ki_fp_filters: VQFN*1EP*3x3mm*P0.5mm*EP1.1x1.1mm*; Footprint: Package_DFN_QFN:VQFN-16-1EP_3x3mm_P0.5mm_EP1.1x1.1mm; Datasheet: https://ww1.microchip.com/downloads/en/DeviceDoc/PAC195X-Data-Sheet-20006539.pdf; Description_: Four Channel High-side Power Monitor, 32V, I2C, VQFN-16
pins: 1 SLOW (in), 2 V_{DD} (power), 3 GND (power), 4 SCL (in), 5 SDA (io), 6 ADDRSEL, 7 SENSE3- (in), 8 SENSE3+ (in), 9 SENSE4- (in), 10 SENSE4+ (in), 11 SENSE1+ (in), 12 SENSE1- (in), 13 SENSE2+ (in), 14 SENSE2- (in), 15 GPIO (io), 16 ~{{PWRDN}} (in), 17 EP

## PAC1954x-xJ6CX
designator *  value PAC1954x-xJ6CX  Reference: U
Four Channel High-side Power Monitor, 32V, I2C, WLCSP-16; ki_keywords: Power Monitor I2C; ki_fp_filters: WLCSP*2.225x2.17mm*Layout4x4*P0.5mm*; Footprint: Package_CSP:WLCSP-16_2.225x2.17mm_Layout4x4_P0.5mm; Datasheet: https://ww1.microchip.com/downloads/en/DeviceDoc/PAC195X-Data-Sheet-20006539.pdf; Description_: Four Channel High-side Power Monitor, 32V, I2C, WLCSP-16
pins: A1 SENSE2+ (in), A2 SENSE1- (in), A3 SENSE1+ (in), A4 V_{DD} (power), B1 SENSE2- (in), B2 GPIO (io), B3 ~{{PWRDN}} (in), B4 GND (power), C1 SENSE3- (in), C2 ADDRSEL, C3 SLOW (in), C4 SCL (in), D1 SENSE3+ (in), D2 SENSE4- (in), D3 SENSE4+ (in), D4 SDA (io)